# Altium footprint library PCB - CONNECTOR - HARWIN - HARWIN M20-9960745.PcbLib: 1 footprints
Each footprint in its own frame and in the unit in brackets; x right, y up, seen from the top. Pads: shape width x height; smd on the part's side, far side on the other; paste and mask are expansions set on the pad; w line width, h text height; cw(c..) or ccw(c..) is an arc to the next point about the centre after c.
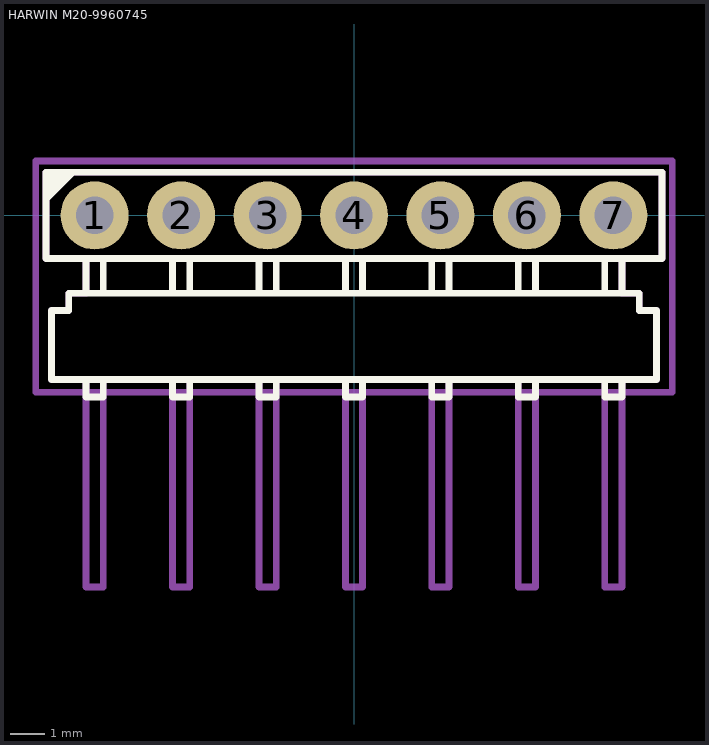
[diagram p0: the footprint, top view; thin cyan lines are the x and y axes]

## HARWIN M20-9960745 [mm] "2.54mm DIL PC TAIL PIN HEADER ASSEMBLY"
height 2.54
pads (7):
  round 2 hole 1.1: 1(-7.62,0) 2(-5.08,0) 3(-2.54,0) 4(0,0) 5(2.54,0) 6(5.08,0) 7(7.62,0)
Top Overlay:
  region: -9,1.3 -9,0.4 -8.1,1.3
  lines w0.2: -7.874,-4.826 -7.874,-5.334 -7.366,-5.334 -7.366,-4.826 ; -7.874,-2.286 -7.874,-1.27 ; -7.366,-2.286 -7.366,-1.27 ; -5.334,-4.826 -5.334,-5.334 -4.826,-5.334 -4.826,-4.826 ; -5.334,-2.286 -5.334,-1.27 ; -4.826,-2.286 -4.826,-1.27 ; -2.794,-4.826 -2.794,-5.334 -2.286,-5.334 -2.286,-4.826 ; -2.794,-2.286 -2.794,-1.27 ; -2.286,-2.286 -2.286,-1.27 ; -0.254,-4.826 -0.254,-5.334 0.254,-5.334 0.254,-4.826 ; -0.254,-2.286 -0.254,-1.27 ; 0.254,-2.286 0.254,-1.27 ; 2.286,-4.826 2.286,-5.334 2.794,-5.334 2.794,-4.826 ; 2.286,-2.286 2.286,-1.27 ; 2.794,-2.286 2.794,-1.27 ; 4.826,-4.826 4.826,-5.334 5.334,-5.334 5.334,-4.826 ; 4.826,-2.286 4.826,-1.27 ; 5.334,-2.286 5.334,-1.27 ; 7.366,-4.826 7.366,-5.334 7.874,-5.334 7.874,-4.826 ; 7.366,-2.286 7.366,-1.27 ; 7.874,-2.286 7.874,-1.27 ; -9.05,-1.27 -9.05,1.27 9.05,1.27 9.05,-1.27 -9.05,-1.27 ; -8.89,-4.826 -8.89,-2.794 -8.382,-2.794 -8.382,-2.286 8.382,-2.286 8.382,-2.794 8.89,-2.794 8.89,-4.826 -8.89,-4.826
Top Assembly:
  lines w0.2: -7.874,-1.27 -7.874,-2.286 -8.382,-2.286 -8.382,-2.794 -8.89,-2.794 -8.89,-4.826 -7.874,-4.826 -7.874,-10.922 -7.366,-10.922 -7.366,-4.826 -5.334,-4.826 -5.334,-10.922 -4.826,-10.922 -4.826,-4.826 -2.794,-4.826 -2.794,-10.922 -2.286,-10.922 -2.286,-4.826 -0.254,-4.826 -0.254,-10.922 0.254,-10.922 0.254,-4.826 2.286,-4.826 2.286,-10.922 2.794,-10.922 2.794,-4.826 4.826,-4.826 4.826,-10.922 5.334,-10.922 5.334,-4.826 7.366,-4.826 7.366,-10.922 7.874,-10.922 7.874,-4.826 8.89,-4.826 8.89,-2.794 8.382,-2.794 8.382,-2.286 7.874,-2.286 7.874,-1.27 ; -0.5,0 0.5,0 ; 0,-0.5 0,0.5 ; -9.05,-1.27 -9.05,1.27 9.05,1.27 9.05,-1.27 -9.05,-1.27
Top Courtyard (Mech15):
  lines w0.2: -9.35,-5.2 9.35,-5.2 9.35,1.6 -9.35,1.6 -9.35,-5.2
3D body "HARWIN M20-9960745.step": height 2.54, standoff -3, extent -8.89,-10.9 8.89,0.32